# Altium footprint library Connector_Phoenix_MC_HighVoltage.PcbLib: 66 footprints (part 1 of 5)
Each footprint in its own frame and in the unit in brackets; x right, y up, seen from the top. Pads: shape width x height; smd on the part's side, far side on the other; paste and mask are expansions set on the pad; w line width, h text height; cw(c..) or ccw(c..) is an arc to the next point about the centre after c.
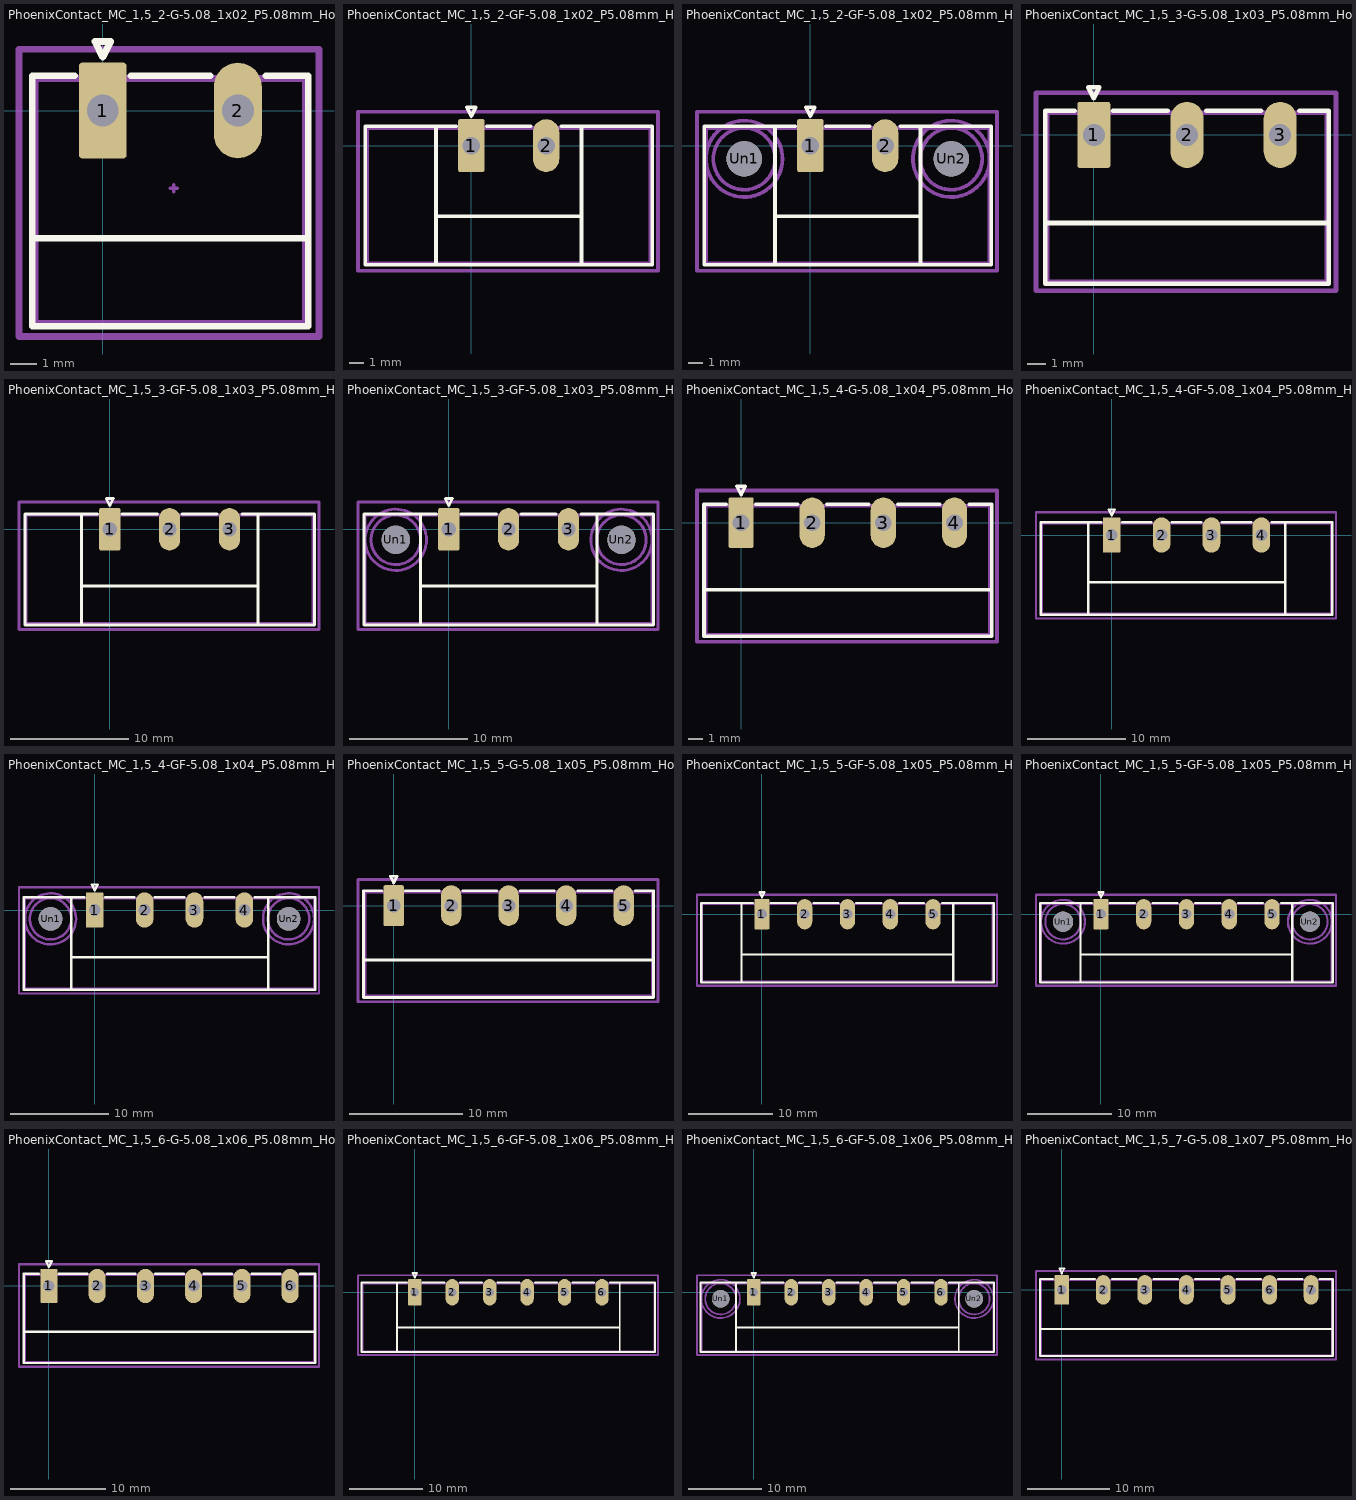
[diagram p0: the footprints below, top view; thin cyan lines are the x and y axes]

## PhoenixContact_MC_1,5_2-G-5.08_1x02_P5.08mm_Horizontal [mm]
pads (2):
  rrect14% 1.8x3.6 hole 1.2: 1(0,0)
  rrect100% 1.8x3.6 hole 1.2: 2(5.08,0)
F.SilkS:
  lines w0.254: -2.65,-4.8 7.73,-4.8 ; -1.05,1.31 -2.65,1.31 -2.65,-8.11 7.73,-8.11 7.73,1.31 6.13,1.31 ; 1.05,1.31 4.03,1.31 ; -0.3,2.6 0,2 0.3,2.6 -0.3,2.6
Top Component Center:
  lines w0.127: 2.54,-2.921 2.794,-2.921 ; 2.667,-3.048 2.667,-2.794
Top Assembly:
  lines w0.254: -0.8,1.2 0,0 0.8,1.2 ; -2.54,-8 7.62,-8 7.62,1.2 -2.54,1.2 -2.54,-8
  text "'.Designator'" at -1.507,-0.34 h1
Top Courtyard:
  lines w0.254: -3.15,-8.5 8.13,-8.5 8.13,2.3 -3.15,2.3 -3.15,-8.5
Top Designator:
  text ".Designator" at -5.128,-3.458 h1.52

## PhoenixContact_MC_1,5_2-GF-5.08_1x02_P5.08mm_Horizontal_ThreadedFlange [mm]
pads (2):
  rrect14% 1.8x3.6 hole 1.2: 1(0,0)
  rrect100% 1.8x3.6 hole 1.2: 2(5.08,0)
F.SilkS:
  lines w0.254: -2.41,-8.11 -2.41,1.31 ; -2.41,-4.8 7.49,-4.8 ; -1.05,1.31 -7.21,1.31 -7.21,-8.11 12.29,-8.11 12.29,1.31 6.13,1.31 ; 1.05,1.31 4.03,1.31 ; 7.49,-8.11 7.49,1.31 ; -0.3,2.6 0,2 0.3,2.6 -0.3,2.6
Top Assembly:
  lines w0.254: -0.8,1.2 0,0 0.8,1.2 ; -7.1,-8 12.18,-8 12.18,1.2 -7.1,1.2 -7.1,-8
  text "'.Designator'" at -1.507,-0.34 h1
Top Courtyard:
  lines w0.254: -7.71,-8.5 12.69,-8.5 12.69,2.3 -7.71,2.3 -7.71,-8.5
Top Designator:
  text ".Designator" at -5.128,-3.458 h1.52

## PhoenixContact_MC_1,5_2-GF-5.08_1x02_P5.08mm_Horizontal_ThreadedFlange_MountHole [mm]
pads (4):
  rrect14% 1.8x3.6 hole 1.2: 1(0,0)
  rrect100% 1.8x3.6 hole 1.2: 2(5.08,0)
  round 2.4 hole 2.4: Un1(-4.5,-0.9) Un2(9.58,-0.9)
F.SilkS:
  lines w0.254: -2.41,-8.11 -2.41,1.31 ; -2.41,-4.8 7.49,-4.8 ; -1.05,1.31 -7.21,1.31 -7.21,-8.11 12.29,-8.11 12.29,1.31 6.13,1.31 ; 1.05,1.31 4.03,1.31 ; 7.49,-8.11 7.49,1.31 ; -0.3,2.6 0,2 0.3,2.6 -0.3,2.6
B.SilkS:
  circle w0.254: c9.58,-0.9 r2.21
  circle w0.254: c-4.5,-0.9 r2.21
Top Assembly:
  lines w0.254: -0.8,1.2 0,0 0.8,1.2 ; -7.1,-8 12.18,-8 12.18,1.2 -7.1,1.2 -7.1,-8
  text "'.Designator'" at -1.507,-0.34 h1
Bottom Assembly:
  circle w0.254: c9.58,-0.9 r2.1
  circle w0.254: c-4.5,-0.9 r2.1
Top Courtyard:
  lines w0.254: -7.71,-8.5 12.69,-8.5 12.69,2.3 -7.71,2.3 -7.71,-8.5
Bottom Courtyard:
  circle w0.254: c9.58,-0.9 r2.6
  circle w0.254: c-4.5,-0.9 r2.6
Top Designator:
  text ".Designator" at -5.128,-3.458 h1.52

## PhoenixContact_MC_1,5_3-G-5.08_1x03_P5.08mm_Horizontal [mm]
pads (3):
  rrect14% 1.8x3.6 hole 1.2: 1(0,0)
  rrect100% 1.8x3.6 hole 1.2: 2(5.08,0) 3(10.16,0)
F.SilkS:
  lines w0.254: -2.65,-4.8 12.81,-4.8 ; -1.05,1.31 -2.65,1.31 -2.65,-8.11 12.81,-8.11 12.81,1.31 11.21,1.31 ; 1.05,1.31 4.03,1.31 ; 6.13,1.31 9.11,1.31 ; -0.3,2.6 0,2 0.3,2.6 -0.3,2.6
Top Assembly:
  lines w0.254: -0.8,1.2 0,0 0.8,1.2 ; -2.54,-8 12.7,-8 12.7,1.2 -2.54,1.2 -2.54,-8
  text "'.Designator'" at 1.033,-0.34 h1
Top Courtyard:
  lines w0.254: -3.15,-8.5 13.2,-8.5 13.2,2.3 -3.15,2.3 -3.15,-8.5
Top Designator:
  text ".Designator" at -2.593,-3.458 h1.52

## PhoenixContact_MC_1,5_3-GF-5.08_1x03_P5.08mm_Horizontal_ThreadedFlange [mm]
pads (3):
  rrect14% 1.8x3.6 hole 1.2: 1(0,0)
  rrect100% 1.8x3.6 hole 1.2: 2(5.08,0) 3(10.16,0)
F.SilkS:
  lines w0.254: -2.41,-8.11 -2.41,1.31 ; -2.41,-4.8 12.57,-4.8 ; -1.05,1.31 -7.21,1.31 -7.21,-8.11 17.37,-8.11 17.37,1.31 11.21,1.31 ; 1.05,1.31 4.03,1.31 ; 6.13,1.31 9.11,1.31 ; 12.57,-8.11 12.57,1.31 ; -0.3,2.6 0,2 0.3,2.6 -0.3,2.6
Top Assembly:
  lines w0.254: -0.8,1.2 0,0 0.8,1.2 ; -7.1,-8 17.26,-8 17.26,1.2 -7.1,1.2 -7.1,-8
  text "'.Designator'" at 1.033,-0.34 h1
Top Courtyard:
  lines w0.254: -7.71,-8.5 17.76,-8.5 17.76,2.3 -7.71,2.3 -7.71,-8.5
Top Designator:
  text ".Designator" at -2.593,-3.458 h1.52

## PhoenixContact_MC_1,5_3-GF-5.08_1x03_P5.08mm_Horizontal_ThreadedFlange_MountHole [mm]
pads (5):
  rrect14% 1.8x3.6 hole 1.2: 1(0,0)
  rrect100% 1.8x3.6 hole 1.2: 2(5.08,0) 3(10.16,0)
  round 2.4 hole 2.4: Un1(-4.5,-0.9) Un2(14.66,-0.9)
F.SilkS:
  lines w0.254: -2.41,-8.11 -2.41,1.31 ; -2.41,-4.8 12.57,-4.8 ; -1.05,1.31 -7.21,1.31 -7.21,-8.11 17.37,-8.11 17.37,1.31 11.21,1.31 ; 1.05,1.31 4.03,1.31 ; 6.13,1.31 9.11,1.31 ; 12.57,-8.11 12.57,1.31 ; -0.3,2.6 0,2 0.3,2.6 -0.3,2.6
B.SilkS:
  circle w0.254: c14.66,-0.9 r2.21
  circle w0.254: c-4.5,-0.9 r2.21
Top Assembly:
  lines w0.254: -0.8,1.2 0,0 0.8,1.2 ; -7.1,-8 17.26,-8 17.26,1.2 -7.1,1.2 -7.1,-8
  text "'.Designator'" at 1.033,-0.34 h1
Bottom Assembly:
  circle w0.254: c14.66,-0.9 r2.1
  circle w0.254: c-4.5,-0.9 r2.1
Top Courtyard:
  lines w0.254: -7.71,-8.5 17.76,-8.5 17.76,2.3 -7.71,2.3 -7.71,-8.5
Bottom Courtyard:
  circle w0.254: c14.66,-0.9 r2.6
  circle w0.254: c-4.5,-0.9 r2.6
Top Designator:
  text ".Designator" at -2.593,-3.458 h1.52

## PhoenixContact_MC_1,5_4-G-5.08_1x04_P5.08mm_Horizontal [mm]
pads (4):
  rrect14% 1.8x3.6 hole 1.2: 1(0,0)
  rrect100% 1.8x3.6 hole 1.2: 2(5.08,0) 3(10.16,0) 4(15.24,0)
F.SilkS:
  lines w0.254: -2.65,-4.8 17.89,-4.8 ; -1.05,1.31 -2.65,1.31 -2.65,-8.11 17.89,-8.11 17.89,1.31 16.29,1.31 ; 1.05,1.31 4.03,1.31 ; 6.13,1.31 9.11,1.31 ; 11.21,1.31 14.19,1.31 ; -0.3,2.6 0,2 0.3,2.6 -0.3,2.6
Top Assembly:
  lines w0.254: -0.8,1.2 0,0 0.8,1.2 ; -2.54,-8 17.78,-8 17.78,1.2 -2.54,1.2 -2.54,-8
  text "'.Designator'" at 3.573,-0.34 h1
Top Courtyard:
  lines w0.254: -3.15,-8.5 18.28,-8.5 18.28,2.3 -3.15,2.3 -3.15,-8.5
Top Designator:
  text ".Designator" at -0.053,-3.458 h1.52

## PhoenixContact_MC_1,5_4-GF-5.08_1x04_P5.08mm_Horizontal_ThreadedFlange [mm]
pads (4):
  rrect14% 1.8x3.6 hole 1.2: 1(0,0)
  rrect100% 1.8x3.6 hole 1.2: 2(5.08,0) 3(10.16,0) 4(15.24,0)
F.SilkS:
  lines w0.254: -2.41,-8.11 -2.41,1.31 ; -2.41,-4.8 17.65,-4.8 ; -1.05,1.31 -7.21,1.31 -7.21,-8.11 22.45,-8.11 22.45,1.31 16.29,1.31 ; 1.05,1.31 4.03,1.31 ; 6.13,1.31 9.11,1.31 ; 11.21,1.31 14.19,1.31 ; 17.65,-8.11 17.65,1.31 ; -0.3,2.6 0,2 0.3,2.6 -0.3,2.6
Top Assembly:
  lines w0.254: -0.8,1.2 0,0 0.8,1.2 ; -7.1,-8 22.34,-8 22.34,1.2 -7.1,1.2 -7.1,-8
  text "'.Designator'" at 3.573,-0.34 h1
Top Courtyard:
  lines w0.254: -7.71,-8.5 22.84,-8.5 22.84,2.3 -7.71,2.3 -7.71,-8.5
Top Designator:
  text ".Designator" at -0.053,-3.458 h1.52

## PhoenixContact_MC_1,5_4-GF-5.08_1x04_P5.08mm_Horizontal_ThreadedFlange_MountHole [mm]
pads (6):
  rrect14% 1.8x3.6 hole 1.2: 1(0,0)
  rrect100% 1.8x3.6 hole 1.2: 2(5.08,0) 3(10.16,0) 4(15.24,0)
  round 2.4 hole 2.4: Un1(-4.5,-0.9) Un2(19.74,-0.9)
F.SilkS:
  lines w0.254: -2.41,-8.11 -2.41,1.31 ; -2.41,-4.8 17.65,-4.8 ; -1.05,1.31 -7.21,1.31 -7.21,-8.11 22.45,-8.11 22.45,1.31 16.29,1.31 ; 1.05,1.31 4.03,1.31 ; 6.13,1.31 9.11,1.31 ; 11.21,1.31 14.19,1.31 ; 17.65,-8.11 17.65,1.31 ; -0.3,2.6 0,2 0.3,2.6 -0.3,2.6
B.SilkS:
  circle w0.254: c19.74,-0.9 r2.21
  circle w0.254: c-4.5,-0.9 r2.21
Top Assembly:
  lines w0.254: -0.8,1.2 0,0 0.8,1.2 ; -7.1,-8 22.34,-8 22.34,1.2 -7.1,1.2 -7.1,-8
  text "'.Designator'" at 3.573,-0.34 h1
Bottom Assembly:
  circle w0.254: c19.74,-0.9 r2.1
  circle w0.254: c-4.5,-0.9 r2.1
Top Courtyard:
  lines w0.254: -7.71,-8.5 22.84,-8.5 22.84,2.3 -7.71,2.3 -7.71,-8.5
Bottom Courtyard:
  circle w0.254: c19.74,-0.9 r2.6
  circle w0.254: c-4.5,-0.9 r2.6
Top Designator:
  text ".Designator" at -0.053,-3.458 h1.52

## PhoenixContact_MC_1,5_5-G-5.08_1x05_P5.08mm_Horizontal [mm]
pads (5):
  rrect14% 1.8x3.6 hole 1.2: 1(0,0)
  rrect100% 1.8x3.6 hole 1.2: 2(5.08,0) 3(10.16,0) 4(15.24,0) 5(20.32,0)
F.SilkS:
  lines w0.254: -2.65,-4.8 22.97,-4.8 ; -1.05,1.31 -2.65,1.31 -2.65,-8.11 22.97,-8.11 22.97,1.31 21.37,1.31 ; 1.05,1.31 4.03,1.31 ; 6.13,1.31 9.11,1.31 ; 11.21,1.31 14.19,1.31 ; 16.29,1.31 19.27,1.31 ; -0.3,2.6 0,2 0.3,2.6 -0.3,2.6
Top Assembly:
  lines w0.254: -0.8,1.2 0,0 0.8,1.2 ; -2.54,-8 22.86,-8 22.86,1.2 -2.54,1.2 -2.54,-8
  text "'.Designator'" at 6.113,-0.34 h1
Top Courtyard:
  lines w0.254: -3.15,-8.5 23.36,-8.5 23.36,2.3 -3.15,2.3 -3.15,-8.5
Top Designator:
  text ".Designator" at 2.487,-3.458 h1.52

## PhoenixContact_MC_1,5_5-GF-5.08_1x05_P5.08mm_Horizontal_ThreadedFlange [mm]
pads (5):
  rrect14% 1.8x3.6 hole 1.2: 1(0,0)
  rrect100% 1.8x3.6 hole 1.2: 2(5.08,0) 3(10.16,0) 4(15.24,0) 5(20.32,0)
F.SilkS:
  lines w0.254: -2.41,-8.11 -2.41,1.31 ; -2.41,-4.8 22.73,-4.8 ; -1.05,1.31 -7.21,1.31 -7.21,-8.11 27.53,-8.11 27.53,1.31 21.37,1.31 ; 1.05,1.31 4.03,1.31 ; 6.13,1.31 9.11,1.31 ; 11.21,1.31 14.19,1.31 ; 16.29,1.31 19.27,1.31 ; 22.73,-8.11 22.73,1.31 ; -0.3,2.6 0,2 0.3,2.6 -0.3,2.6
Top Assembly:
  lines w0.254: -0.8,1.2 0,0 0.8,1.2 ; -7.1,-8 27.42,-8 27.42,1.2 -7.1,1.2 -7.1,-8
  text "'.Designator'" at 6.113,-0.34 h1
Top Courtyard:
  lines w0.254: -7.71,-8.5 27.92,-8.5 27.92,2.3 -7.71,2.3 -7.71,-8.5
Top Designator:
  text ".Designator" at 2.487,-3.458 h1.52

## PhoenixContact_MC_1,5_5-GF-5.08_1x05_P5.08mm_Horizontal_ThreadedFlange_MountHole [mm]
pads (7):
  rrect14% 1.8x3.6 hole 1.2: 1(0,0)
  rrect100% 1.8x3.6 hole 1.2: 2(5.08,0) 3(10.16,0) 4(15.24,0) 5(20.32,0)
  round 2.4 hole 2.4: Un1(-4.5,-0.9) Un2(24.82,-0.9)
F.SilkS:
  lines w0.254: -2.41,-8.11 -2.41,1.31 ; -2.41,-4.8 22.73,-4.8 ; -1.05,1.31 -7.21,1.31 -7.21,-8.11 27.53,-8.11 27.53,1.31 21.37,1.31 ; 1.05,1.31 4.03,1.31 ; 6.13,1.31 9.11,1.31 ; 11.21,1.31 14.19,1.31 ; 16.29,1.31 19.27,1.31 ; 22.73,-8.11 22.73,1.31 ; -0.3,2.6 0,2 0.3,2.6 -0.3,2.6
B.SilkS:
  circle w0.254: c24.82,-0.9 r2.21
  circle w0.254: c-4.5,-0.9 r2.21
Top Assembly:
  lines w0.254: -0.8,1.2 0,0 0.8,1.2 ; -7.1,-8 27.42,-8 27.42,1.2 -7.1,1.2 -7.1,-8
  text "'.Designator'" at 6.113,-0.34 h1
Bottom Assembly:
  circle w0.254: c24.82,-0.9 r2.1
  circle w0.254: c-4.5,-0.9 r2.1
Top Courtyard:
  lines w0.254: -7.71,-8.5 27.92,-8.5 27.92,2.3 -7.71,2.3 -7.71,-8.5
Bottom Courtyard:
  circle w0.254: c24.82,-0.9 r2.6
  circle w0.254: c-4.5,-0.9 r2.6
Top Designator:
  text ".Designator" at 2.487,-3.458 h1.52

## PhoenixContact_MC_1,5_6-G-5.08_1x06_P5.08mm_Horizontal [mm]
pads (6):
  rrect14% 1.8x3.6 hole 1.2: 1(0,0)
  rrect100% 1.8x3.6 hole 1.2: 2(5.08,0) 3(10.16,0) 4(15.24,0) 5(20.32,0) 6(25.4,0)
F.SilkS:
  lines w0.254: -2.65,-4.8 28.05,-4.8 ; -1.05,1.31 -2.65,1.31 -2.65,-8.11 28.05,-8.11 28.05,1.31 26.45,1.31 ; 1.05,1.31 4.03,1.31 ; 6.13,1.31 9.11,1.31 ; 11.21,1.31 14.19,1.31 ; 16.29,1.31 19.27,1.31 ; 21.37,1.31 24.35,1.31 ; -0.3,2.6 0,2 0.3,2.6 -0.3,2.6
Top Assembly:
  lines w0.254: -0.8,1.2 0,0 0.8,1.2 ; -2.54,-8 27.94,-8 27.94,1.2 -2.54,1.2 -2.54,-8
  text "'.Designator'" at 8.653,-0.34 h1
Top Courtyard:
  lines w0.254: -3.15,-8.5 28.44,-8.5 28.44,2.3 -3.15,2.3 -3.15,-8.5
Top Designator:
  text ".Designator" at 5.027,-3.458 h1.52

## PhoenixContact_MC_1,5_6-GF-5.08_1x06_P5.08mm_Horizontal_ThreadedFlange [mm]
pads (6):
  rrect14% 1.8x3.6 hole 1.2: 1(0,0)
  rrect100% 1.8x3.6 hole 1.2: 2(5.08,0) 3(10.16,0) 4(15.24,0) 5(20.32,0) 6(25.4,0)
F.SilkS:
  lines w0.254: -2.41,-8.11 -2.41,1.31 ; -2.41,-4.8 27.81,-4.8 ; -1.05,1.31 -7.21,1.31 -7.21,-8.11 32.61,-8.11 32.61,1.31 26.45,1.31 ; 1.05,1.31 4.03,1.31 ; 6.13,1.31 9.11,1.31 ; 11.21,1.31 14.19,1.31 ; 16.29,1.31 19.27,1.31 ; 21.37,1.31 24.35,1.31 ; 27.81,-8.11 27.81,1.31 ; -0.3,2.6 0,2 0.3,2.6 -0.3,2.6
Top Assembly:
  lines w0.254: -0.8,1.2 0,0 0.8,1.2 ; -7.1,-8 32.5,-8 32.5,1.2 -7.1,1.2 -7.1,-8
  text "'.Designator'" at 8.653,-0.34 h1
Top Courtyard:
  lines w0.254: -7.71,-8.5 33,-8.5 33,2.3 -7.71,2.3 -7.71,-8.5
Top Designator:
  text ".Designator" at 5.027,-3.458 h1.52

## PhoenixContact_MC_1,5_6-GF-5.08_1x06_P5.08mm_Horizontal_ThreadedFlange_MountHole [mm]
pads (8):
  rrect14% 1.8x3.6 hole 1.2: 1(0,0)
  rrect100% 1.8x3.6 hole 1.2: 2(5.08,0) 3(10.16,0) 4(15.24,0) 5(20.32,0) 6(25.4,0)
  round 2.4 hole 2.4: Un1(-4.5,-0.9) Un2(29.9,-0.9)
F.SilkS:
  lines w0.254: -2.41,-8.11 -2.41,1.31 ; -2.41,-4.8 27.81,-4.8 ; -1.05,1.31 -7.21,1.31 -7.21,-8.11 32.61,-8.11 32.61,1.31 26.45,1.31 ; 1.05,1.31 4.03,1.31 ; 6.13,1.31 9.11,1.31 ; 11.21,1.31 14.19,1.31 ; 16.29,1.31 19.27,1.31 ; 21.37,1.31 24.35,1.31 ; 27.81,-8.11 27.81,1.31 ; -0.3,2.6 0,2 0.3,2.6 -0.3,2.6
B.SilkS:
  circle w0.254: c29.9,-0.9 r2.21
  circle w0.254: c-4.5,-0.9 r2.21
Top Assembly:
  lines w0.254: -0.8,1.2 0,0 0.8,1.2 ; -7.1,-8 32.5,-8 32.5,1.2 -7.1,1.2 -7.1,-8
  text "'.Designator'" at 8.653,-0.34 h1
Bottom Assembly:
  circle w0.254: c29.9,-0.9 r2.1
  circle w0.254: c-4.5,-0.9 r2.1
Top Courtyard:
  lines w0.254: -7.71,-8.5 33,-8.5 33,2.3 -7.71,2.3 -7.71,-8.5
Bottom Courtyard:
  circle w0.254: c29.9,-0.9 r2.6
  circle w0.254: c-4.5,-0.9 r2.6
Top Designator:
  text ".Designator" at 5.027,-3.458 h1.52

## PhoenixContact_MC_1,5_7-G-5.08_1x07_P5.08mm_Horizontal [mm]
pads (7):
  rrect14% 1.8x3.6 hole 1.2: 1(0,0)
  rrect100% 1.8x3.6 hole 1.2: 2(5.08,0) 3(10.16,0) 4(15.24,0) 5(20.32,0) 6(25.4,0) 7(30.48,0)
F.SilkS:
  lines w0.254: -2.65,-4.8 33.13,-4.8 ; -1.05,1.31 -2.65,1.31 -2.65,-8.11 33.13,-8.11 33.13,1.31 31.53,1.31 ; 1.05,1.31 4.03,1.31 ; 6.13,1.31 9.11,1.31 ; 11.21,1.31 14.19,1.31 ; 16.29,1.31 19.27,1.31 ; 21.37,1.31 24.35,1.31 ; 26.45,1.31 29.43,1.31 ; -0.3,2.6 0,2 0.3,2.6 -0.3,2.6
Top Assembly:
  lines w0.254: -0.8,1.2 0,0 0.8,1.2 ; -2.54,-8 33.02,-8 33.02,1.2 -2.54,1.2 -2.54,-8
  text "'.Designator'" at 11.193,-0.34 h1
Top Courtyard:
  lines w0.254: -3.15,-8.5 33.53,-8.5 33.53,2.3 -3.15,2.3 -3.15,-8.5
Top Designator:
  text ".Designator" at 7.572,-3.458 h1.52